# Altium schematic symbol library CAP_1812.SchLib: 1 symbol
Pins are listed as number, name and electrical type; pins without a type are passive.

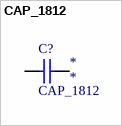
[diagram p0: symbol CAP_1812]

## CAP_1812
designator C?
Value: *; Tolerance: *
footprint CAPC1812(4532)250_N (Chip Capacitor, Body 4.5x3.2mm, Height 2.5mm, IPC Medium Density)
footprint CAPC1812(4532)250_N (Chip Capacitor, Body 4.5x3.2mm, Height 2.5mm, IPC Medium Density)
pins: 1, 2
1 alternate drawing of the same symbol